# Altium footprint library Footprint_Fuse.PcbLib: 1 footprints
Each footprint in its own frame and in the unit in brackets; x right, y up, seen from the top. Pads: shape width x height; smd on the part's side, far side on the other; paste and mask are expansions set on the pad; w line width, h text height; cw(c..) or ccw(c..) is an arc to the next point about the centre after c.
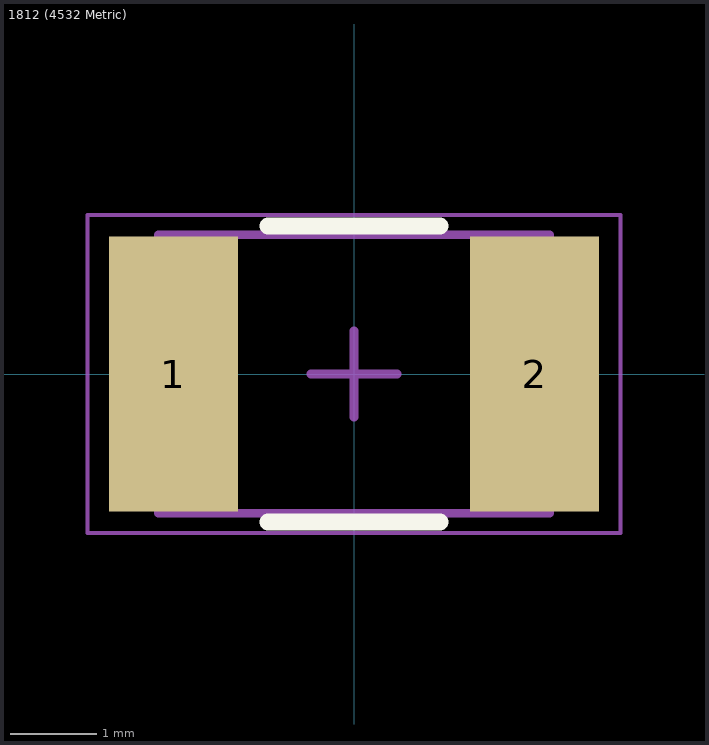
[diagram p0: the footprint, top view; thin cyan lines are the x and y axes]

## 1812 (4532 Metric) [mm]
pads (2):
  rect 1.5x3.2 smd: 1(-2.1,0) 2(2.1,0)
Top Overlay:
  lines w0.2: -1,-1.72 1,-1.72 ; -1,1.72 1,1.72
Top Assembly:
  lines w0.1: -2.275,-1.62 -2.275,1.62 2.275,1.62 2.275,-1.62 -2.275,-1.62
  text ".Designator" at -7.747,-1.27 h1.02
Top Courtyard:
  lines w0.05: -3.1,-1.85 -3.1,1.85 3.1,1.85 3.1,-1.85 -3.1,-1.85
  lines w0.1: -0.5,0 0.5,0 ; 0,-0.5 0,0.5
3D body "mf-msmf050.stp": height 0.7, standoff 0, extent -2.275,-1.62 2.275,1.62